# Altium schematic symbol library pulse-J0G-0003NL.Schlib: 1 symbol
Pins are listed as number, name and electrical type; pins without a type are passive.

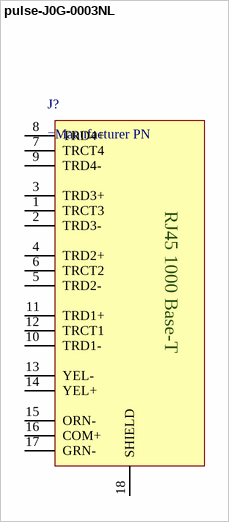
[diagram p0: symbol pulse-J0G-0003NL]

## pulse-J0G-0003NL
designator J?
pins: 1 TRCT3, 2 TRD3-, 3 TRD3+, 4 TRD2+, 5 TRD2-, 6 TRCT2, 7 TRCT4, 8 TRD4+, 9 TRD4-, 10 TRD1-, 11 TRD1+, 12 TRCT1, 13 YEL-, 14 YEL+, 15 ORN-, 16 COM+, 17 GRN-, 18 SHIELD
text: RJ45 1000 Base-T